# EAGLE library part LMR160067Q3 (library EARS)
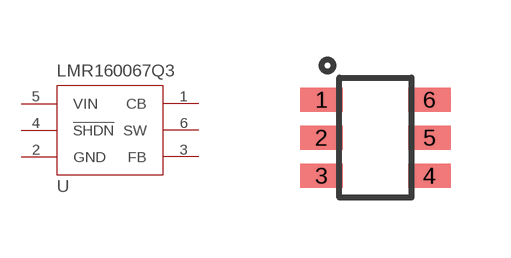
[diagram p1: symbol with the pads of TI_SOT6; footprint TI_SOT6]

Designator prefix -

## LMR160067Q3  [TI_SOT6]
1  CB
2  GND
3  FB
4  !SHDN!
5  VIN
6  SW

## Footprint TI_SOT6 (pad centres in mm)
smd 1.1 x 0.6: 1 -1.35,0.95; 2 -1.35,0; 3 -1.35,-0.95; 4 1.35,-0.95; 5 1.35,0; 6 1.35,0.95